# EAGLE library part E3631A (library GPIB_epccs)
Agilent E3631A Triple Output DC Power Supply
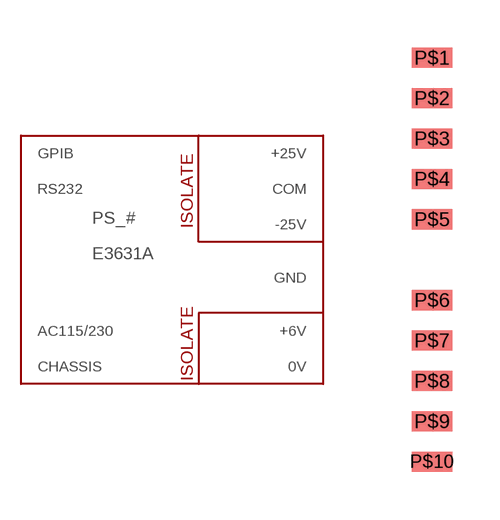
[diagram p5: symbol with the pads of POS10; footprint POS10]

Designator prefix PS_#

## E3631A  [POS10]
P$1  +6V
P$2  +25V
P$3  -25V
P$4  0V
P$5  AC115/230
P$6  CHASSIS
P$7  COM
P$8  GND
P$9  GPIB
P$10  RS232

## Footprint POS10 (pad centres in mm)
10 position
smd 1.27 x 0.635: P$1 0,6.35; P$2 0,5.08; P$3 0,3.81; P$4 0,2.54; P$5 0,1.27; P$6 0,-1.27; P$7 0,-2.54; P$8 0,-3.81; P$9 0,-5.08; P$10 0,-6.35